# Altium schematic symbol library Resistors_GP.SchLib: 271 symbols (part 3 of 3)
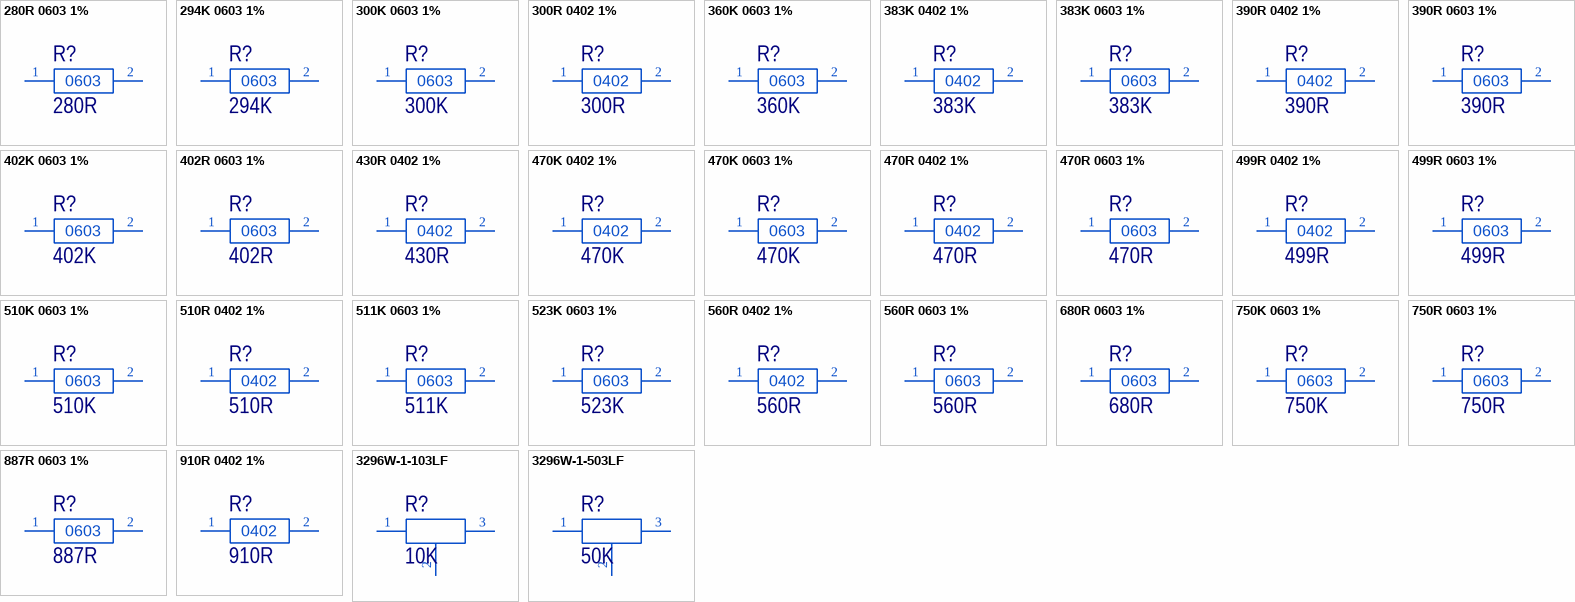
[diagram p8: symbols 280R 0603 1% to 3296W-1-503LF]

## 511K 0603 1%
designator R?, comment 511K
RES 0603 511K 1% 0.1W 100PPMK; PartNumber: RC0603FR-07511KL; Manufacturer: Yageo; Voltage: 75 V; Temperature Coefficient: ± 100 ppm/°C; Marking: 69D; Power Dissipation: 100 mW; ItemType: Resistor; ItemSubType: 0603; Value: 511K; Tolerance: ± 1 %; Type: Thick Film; Mounting: SMD
footprint R0603GP_69D (SMD060316X08MM)
pins: 1, 2

## 523K 0603 1%
designator R?, comment 523K
RES 0603 523K 1% 0.1W 100PPMK; PartNumber: RC0603FR-07523KL; Manufacturer: Yageo; Voltage: 75 V; Temperature Coefficient: ± 100 ppm/°C; Marking: 70D; Power Dissipation: 100 mW; ItemType: Resistor; ItemSubType: 0603; Value: 523K; Tolerance: ± 1 %; Type: Thick Film; Mounting: SMD
footprint R0603GP_70D (SMD060316X08MM)
pins: 1, 2

## 560R 0402 1%
designator R?, comment 560R
RES 0402 560R 1% 0.0625W 100PPMK; PartNumber: RC0402FR-07560RL; Manufacturer: Yageo; Voltage: 50 V; Temperature Coefficient: ± 100 ppm/°C; Power Dissipation: 62.5 mW; ItemType: Resistor; ItemSubType: 0402; Value: 560R; Tolerance: ± 1 %; Type: Thick Film; Mounting: SMD
footprint R0402GP (SMD040210X05MM)
footprint R0402GP_0.8 (SMD040210X05MM)
pins: 1, 2

## 560R 0603 1%
designator R?, comment 560R
RES 0603 560R 1% 0.1W 100PPMK; PartNumber: RC0603FR-07560RL; Manufacturer: Yageo; Voltage: 75 V; Temperature Coefficient: ± 100 ppm/°C; Marking: 561; Power Dissipation: 100 mW; ItemType: Resistor; ItemSubType: 0603; Value: 560R; Tolerance: ± 1 %; Type: Thick Film; Mounting: SMD
footprint R0603GP_561 (SMD060316X08MM)
pins: 1, 2

## 680R 0603 1%
designator R?, comment 680R
RES 0603 680R 1% 0.1W 100PPMK; PartNumber: RC0603FR-07680RL; Manufacturer: Yageo; Voltage: 75 V; Temperature Coefficient: ± 100 ppm/°C; Marking: 681; Power Dissipation: 100 mW; ItemType: Resistor; ItemSubType: 0603; Value: 680R; Tolerance: ± 1 %; Type: Thick Film; Mounting: SMD
footprint R0603GP_681 (SMD060316X08MM)
pins: 1, 2

## 750K 0603 1%
designator R?, comment 750K
RES 0603 750K 1% 0.1W 100PPMK; PartNumber: RC0603FR-07750KL; Manufacturer: Yageo; Voltage: 75 V; Temperature Coefficient: ± 100 ppm/°C; Marking: 85D; Power Dissipation: 100 mW; ItemType: Resistor; ItemSubType: 0603; Value: 750K; Tolerance: ± 1 %; Type: Thick Film; Mounting: SMD
footprint R0603GP_85D (SMD060316X08MM)
pins: 1, 2

## 750R 0603 1%
designator R?, comment 750R
RES 0603 750R 1% 0.1W 100PPMK; PartNumber: RC0603FR-07750RL; Manufacturer: Yageo; Voltage: 75 V; Temperature Coefficient: ± 100 ppm/°C; Marking: 85A or 751; Power Dissipation: 100 mW; ItemType: Resistor; ItemSubType: 0603; Value: 750R; Tolerance: ± 1 %; Type: Thick Film; Mounting: SMD
footprint R0603GP_85A (SMD060316X08MM)
pins: 1, 2

## 887R 0603 1%
designator R?, comment 887R
RES 0603 887R 1% 0.1W 100PPMK; PartNumber: RC0603FR-07887RL; Manufacturer: Yageo; Voltage: 75 V; Temperature Coefficient: ± 100 ppm/°C; Marking: 92A; Power Dissipation: 100 mW; ItemType: Resistor; ItemSubType: 0603; Value: 887R; Tolerance: ± 1 %; Type: Thick Film; Mounting: SMD
footprint R0603GP_92A (SMD060316X08MM)
pins: 1, 2

## 910R 0402 1%
designator R?, comment 910R
RES 0402 910R 1% 0.0625W 100PPMK; PartNumber: RC0402FR-07910RL; Manufacturer: Yageo; Voltage: 50 V; Temperature Coefficient: ± 100 ppm/°C; Power Dissipation: 62.5 mW; ItemType: Resistor; ItemSubType: 0402; Value: 910R; Tolerance: ± 1 %; Type: Thick Film; Mounting: SMD
footprint R0402GP (SMD040210X05MM)
footprint R0402GP_0.8 (SMD040210X05MM)
pins: 1, 2

## 3296W-1-103LF
designator R?, comment 10K
3/8 ˝ Square Trimming Potentiometer; PartNumber: 3296W-1-103LF; Manufacturer: Bourns; Voltage: 300 V; Marking: 103; Power Dissipation: 500 mW; ItemType: Resistor; ItemSubType: Trimmer; Value: 10K; Mounting: THT
footprint 3296W (3/8 Trimming Potentiometer)
pins: 1, 2, 3

## 3296W-1-503LF
designator R?, comment 50K
3/8 ˝ Square Trimming Potentiometer; PartNumber: 3296W-1-503LF; Manufacturer: Bourns; Voltage: 300 V; Marking: 503; Power Dissipation: 500 mW; ItemType: Resistor; ItemSubType: Trimmer; Value: 50K; Mounting: THT
footprint 3296W (3/8 Trimming Potentiometer)
pins: 1, 2, 3